# Altium schematic symbol library RF Connector.SchLib: 5 symbols
Pins are listed as number, name and electrical type; pins without a type are passive.

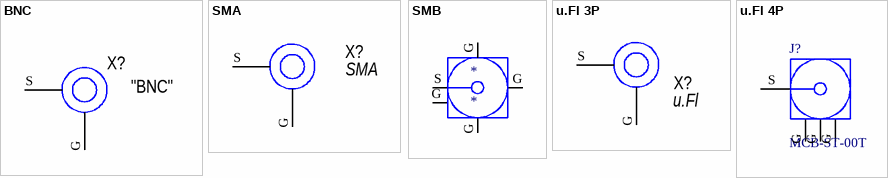
[diagram p0: symbols BNC to u.Fl 4P]

## BNC
designator X?, comment "BNC"
RF; Manufacturer: TE Connectivity AMP Connectors; Model: 1-1337445-0; HelpURL: https://www.digikey.com/products/en?keywords=1-1337445-0; ComponentKind: BNC
footprint BNC FEMALE-SR
footprint BNC FEMALE-RA
pins: G GND, S Signal

## SMA
designator X?
RF; Model: *; Manufacturer: *; HelpURL: *; ComponentKind: *
footprint SMA MALE ENDLAUNCH-SR
footprint SMA MALE-SR (MOLEX SD-73251-230)
footprint SMA MALE ENDLAUNCH ROUND-SR (MOLEX SD-73251-068)
footprint SMA FEMALE-SR SMD (MOLEX SD-73251-135 (Gold))
footprint SMA Female-SR (MOLEX SD-73391-0060)
footprint SMA Female-RA (MOLEX SD-73100-0114)
footprint SMA FEMALE ENDLAUNCH-SR (MOLEX SD-73251-115)
pins: G GND, S Signal

## SMB
designator *
RF
footprint SMB-RA
footprint SMB-SR
pins: G GND (power), G GND (power), G GND (power), G GND (power), S Signal "Signal Pin"

## u.Fl 3P
designator X?, comment u.Fl
RF; Manufacturer: Hirose Electric Co Ltd; Model: U.FL-R-SMT(01); HelpURL: *; ComponentKind: *
footprint u.Fl 3P
pins: G GND, S Signal

## u.Fl 4P
designator J?, comment MCB-ST-00T
RF; PCB_Layout: Complies with manufacturer's recommendation.; Published: 26-Sep-2008; DatasheetVersion: Mar-2008; PackageVersion: Mar-2008; PackageReference: MCB-ST-00T; Publisher: Altium Limited; PackageDescription: Connector; RF Coaxial, MCB SM Receptacle; 4 Position; Vertical, Body 3.1mm x 3.0 x 1.3 mm (LxWxH); ComponentLink1Description: Manufacturer Link; ComponentLink1URL: http://www.sunridgecorp.com/; ComponentLink2Description: Datasheet; ComponentLink2URL: http://www.sunridgecorp.com/pdf/MCBseries.pdf
footprint u.Fl 4P
pins: G GND (power), G GND (power), G GND (power), S Signal "Signal Pin"